# EAGLE library part ADG715BRU (library ADG715)
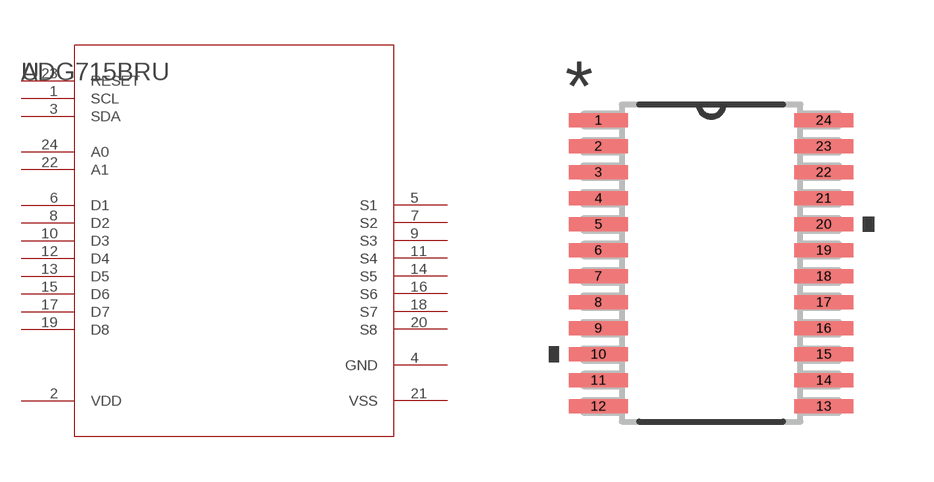
[diagram p0: symbol with the pads of RU_24; footprint RU_24]

Designator prefix U

## ADG715BRU  [RU_24]
1  SCL  pas
2  VDD  pwr
3  SDA  pas
4  GND  pas
5  S1  pas
6  D1  pas
7  S2  pas
8  D2  pas
9  S3  pas
10  D3  pas
11  S4  pas
12  D4  pas
13  D5  pas
14  S5  pas
15  D6  pas
16  S6  pas
17  D7  pas
18  S7  pas
19  D8  pas
20  S8  pas
21  VSS  pwr
22  A1  pas
23  RESET  pas
24  A0  pas

## Footprint RU_24 (pad centres in mm)
smd 1.473 x 0.356: 1 -2.819,3.575; 2 -2.819,2.925; 3 -2.819,2.275; 4 -2.819,1.625; 5 -2.819,0.975; 6 -2.819,0.325; 7 -2.819,-0.325; 8 -2.819,-0.975; 9 -2.819,-1.625; 10 -2.819,-2.275; 11 -2.819,-2.925; 12 -2.819,-3.575; 13 2.819,-3.575; 14 2.819,-2.925; 15 2.819,-2.275; 16 2.819,-1.625; 17 2.819,-0.975; 18 2.819,-0.325; 19 2.819,0.325; 20 2.819,0.975; 21 2.819,1.625; 22 2.819,2.275; 23 2.819,2.925; 24 2.819,3.575